# EAGLE library part CAP_SLIDER (library CAP_SLIDER)
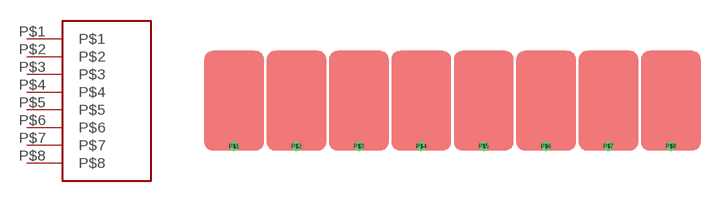
[diagram p0: symbol with the pads of CAP_SLIDER; footprint CAP_SLIDER]

Designator prefix CAP_SLIDER

## CAP_SLIDER  [CAP_SLIDER]
P$1  P$1
P$2  P$2
P$3  P$3
P$4  P$4
P$5  P$5
P$6  P$6
P$7  P$7
P$8  P$8

## Footprint CAP_SLIDER (pad centres in mm)
drill 0.6: P$1 3.5,-0.5; P$2 11,-0.5; P$3 18.5,-0.5; P$4 26,-0.5; P$5 33.5,-0.5; P$6 41,-0.5; P$7 48.5,-0.5; P$8 56,-0.5